# Altium footprint library Connector_Samtec_HSEC8.PcbLib: 133 footprints (part 4 of 9)
Each footprint in its own frame and in the unit in brackets; x right, y up, seen from the top. Pads: shape width x height; smd on the part's side, far side on the other; paste and mask are expansions set on the pad; w line width, h text height; cw(c..) or ccw(c..) is an arc to the next point about the centre after c.
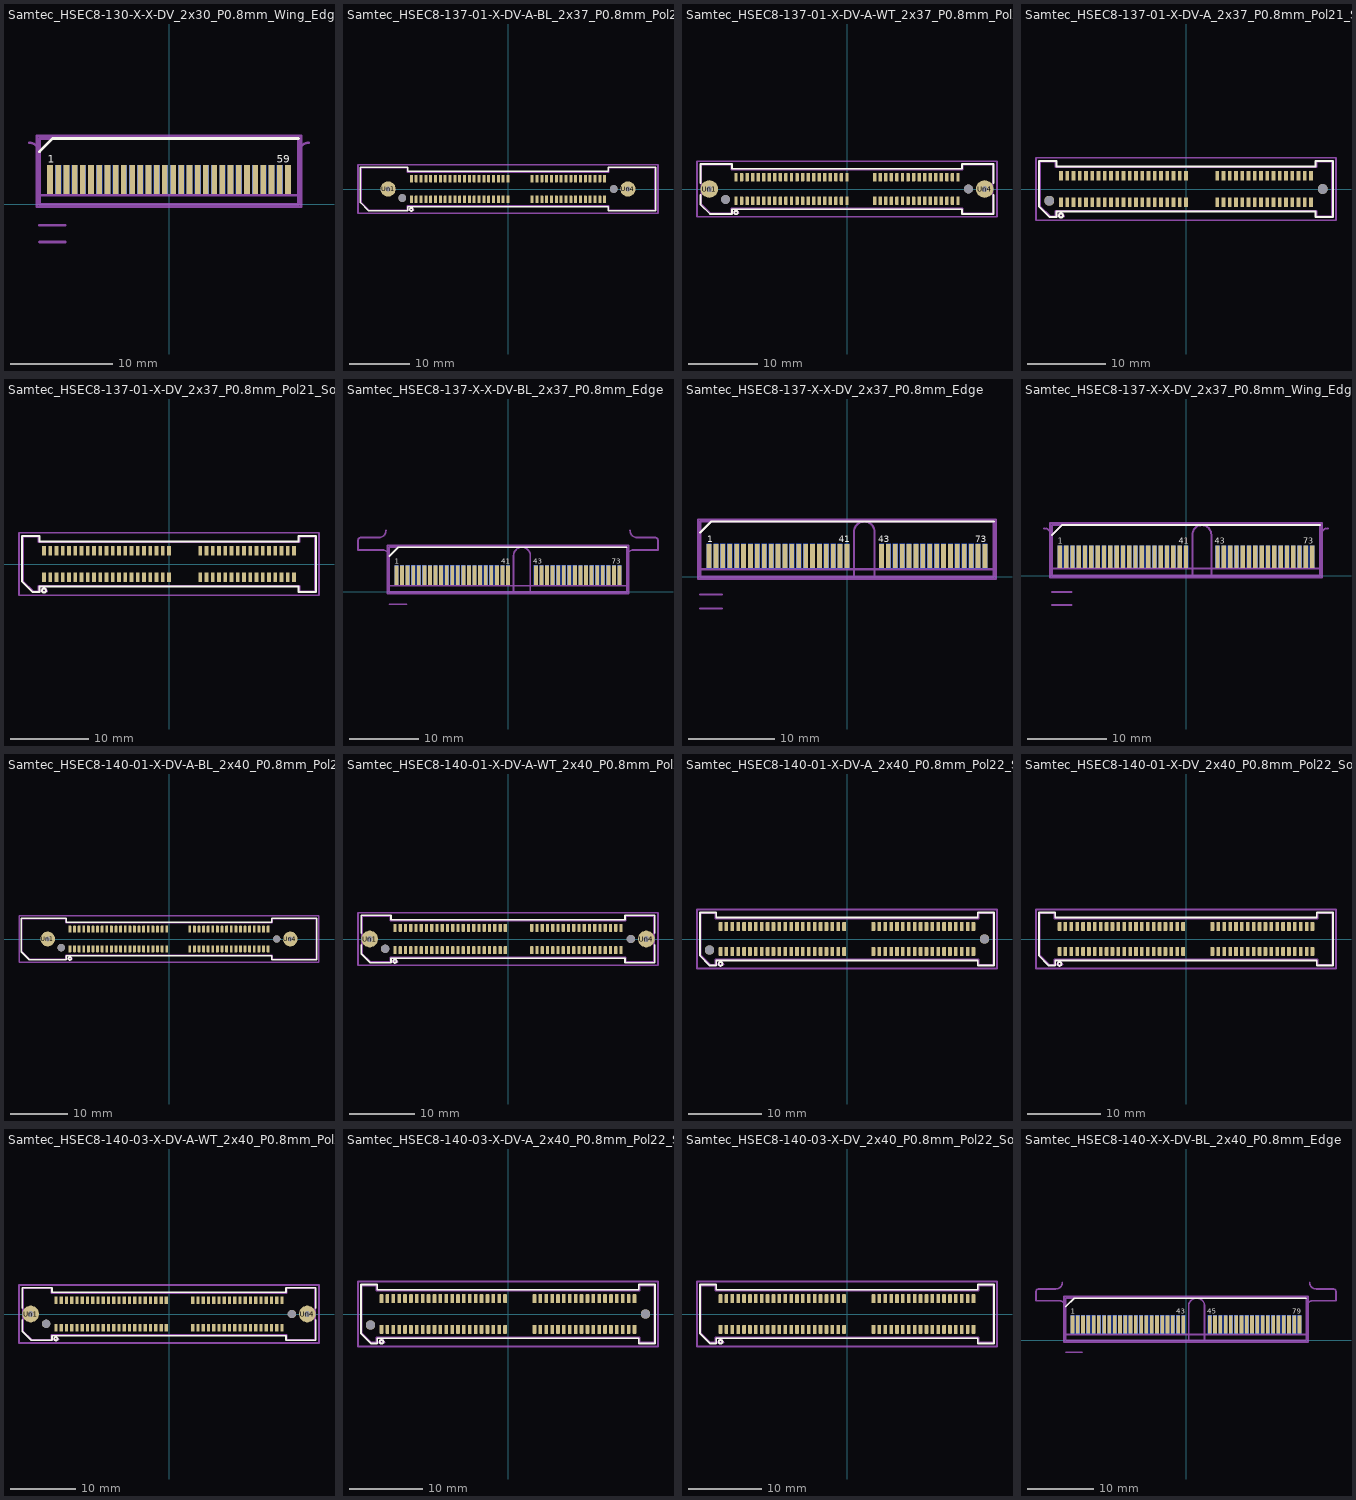
[diagram p3: the footprints below, top view; thin cyan lines are the x and y axes]

## Samtec_HSEC8-130-X-X-DV_2x30_P0.8mm_Wing_Edge [mm]
pads (60):
  rect 0.55x2.8 smd: 1(-11.6,2.4) 3(-10.8,2.4) 5(-10,2.4) 7(-9.2,2.4) 9(-8.4,2.4) 11(-7.6,2.4) 13(-6.8,2.4) 15(-6,2.4) 17(-5.2,2.4) 19(-4.4,2.4) 21(-3.6,2.4) 23(-2.8,2.4) 25(-2,2.4) 27(-1.2,2.4) 29(-0.4,2.4) 31(0.4,2.4) 33(1.2,2.4) 35(2,2.4) 37(2.8,2.4) 39(3.6,2.4) 41(4.4,2.4) 43(5.2,2.4) 45(6,2.4) 47(6.8,2.4) 49(7.6,2.4) 51(8.4,2.4) 53(9.2,2.4) 55(10,2.4) 57(10.8,2.4) 59(11.6,2.4)
  rect 0.55x2.8 smd far side: 2(-11.6,2.4) 4(-10.8,2.4) 6(-10,2.4) 8(-9.2,2.4) 10(-8.4,2.4) 12(-7.6,2.4) 14(-6.8,2.4) 16(-6,2.4) 18(-5.2,2.4) 20(-4.4,2.4) 22(-3.6,2.4) 24(-2.8,2.4) 26(-2,2.4) 28(-1.2,2.4) 30(-0.4,2.4) 32(0.4,2.4) 34(1.2,2.4) 36(2,2.4) 38(2.8,2.4) 40(3.6,2.4) 42(4.4,2.4) 44(5.2,2.4) 46(6,2.4) 48(6.8,2.4) 50(7.6,2.4) 52(8.4,2.4) 54(9.2,2.4) 56(10,2.4) 58(10.8,2.4) 60(11.6,2.4)
F.SilkS:
  lines w0.254: -12.625,5.13 -11.355,6.4 12.625,6.4
  text "59" at 10.509,4.025 h0.75
  text "1" at -11.839,4.025 h0.75
B.SilkS:
  lines w0.254: -12.625,6.4 12.625,6.4
  text "60" at 11.939,4.025 h0.75
  text "2" at -11.2,4.025 h0.75
Top Assembly:
  lines w0.254: -12.625,0.88 12.625,0.88 ; -12.625,0 12.625,0 12.625,6.4 -11.355,6.4 -12.625,5.13 -12.625,0
  text "'.Designator'" at -4.047,1.7 h1
Bottom Assembly:
  lines w0.254: -12.625,0.88 12.625,0.88 ; -12.625,0 12.625,0 12.625,6.4 -12.625,6.4 -12.625,0
Top Courtyard:
  lines w0.254: -12.88,-0.25 12.88,-0.25 12.88,6.65 -12.88,6.65 -12.88,-0.25
Bottom Courtyard:
  lines w0.254: -12.88,-0.25 12.88,-0.25 12.88,6.65 -12.88,6.65 -12.88,-0.25
Top Designator:
  text ".Designator" at -7.618,0.475 h1.52
Board Shape:
  lines w0.254: -13.625,6 cw(c-13.625,5) -12.625,5 -12.625,0 12.625,0 12.625,5 cw(c13.625,5) 13.625,6
Cmts.User:
  lines w0.254: -12.625,-3.69 -10.125,-3.69 ; -12.625,-2.05 -10.125,-2.05
  text "mated PCB distance: 3.69 mm (max)" at -10.03,-4.411 h0.75
  text "mated PCB distance: 2.05 mm (min)" at -10.03,-2.771 h0.75
  text "Chamfer 30 degree 0.45 mm" at -7.868,-0.21 h0.75

## Samtec_HSEC8-137-01-X-DV-A-BL_2x37_P0.8mm_Pol21_Socket_WeldTabs_BoardLocks [mm]
pads (78):
  rrect25% 0.5x1.2 smd: 1(-16,-1.7) 2(-16,1.7) 3(-15.2,-1.7) 4(-15.2,1.7) 5(-14.4,-1.7) 6(-14.4,1.7) 7(-13.6,-1.7) 8(-13.6,1.7) 9(-12.8,-1.7) 10(-12.8,1.7) 11(-12,-1.7) 12(-12,1.7) 13(-11.2,-1.7) 14(-11.2,1.7) 15(-10.4,-1.7) 16(-10.4,1.7) 17(-9.6,-1.7) 18(-9.6,1.7) 19(-8.8,-1.7) 20(-8.8,1.7) 21(-8,-1.7) 22(-8,1.7) 23(-7.2,-1.7) 24(-7.2,1.7) 25(-6.4,-1.7) 26(-6.4,1.7) 27(-5.6,-1.7) 28(-5.6,1.7) 29(-4.8,-1.7) 30(-4.8,1.7) 31(-4,-1.7) 32(-4,1.7) 33(-3.2,-1.7) 34(-3.2,1.7) 35(-2.4,-1.7) 36(-2.4,1.7) 37(-1.6,-1.7) 38(-1.6,1.7) 39(-0.8,-1.7) 40(-0.8,1.7) 41(0,-1.7) 42(0,1.7) 43(4,-1.7) 44(4,1.7) 45(4.8,-1.7) 46(4.8,1.7) 47(5.6,-1.7) 48(5.6,1.7) 49(6.4,-1.7) 50(6.4,1.7) 51(7.2,-1.7) 52(7.2,1.7) 53(8,-1.7) 54(8,1.7) 55(8.8,-1.7) 56(8.8,1.7) 57(9.6,-1.7) 58(9.6,1.7) 59(10.4,-1.7) 60(10.4,1.7) 61(11.2,-1.7) 62(11.2,1.7) 63(12,-1.7) 64(12,1.7) 65(12.8,-1.7) 66(12.8,1.7) 67(13.6,-1.7) 68(13.6,1.7) 69(14.4,-1.7) 70(14.4,1.7) 71(15.2,-1.7) 72(15.2,1.7) 73(16,-1.7) 74(16,1.7)
  round 2.54 hole 0.84: Un1(-19.85,0) Un4(19.85,0)
  round 1.27 hole 1.27: Un2(-17.5,-1.5) Un3(17.5,0)
F.SilkS:
  circle w0.254: c-16,-3.4 r0.25
  lines w0.254: -24.435,-2.246 -23.071,-3.61 -16.59,-3.61 -16.59,-2.91 16.59,-2.91 16.59,-3.61 24.435,-3.61 24.435,3.61 16.59,3.61 16.59,2.91 -16.59,2.91 -16.59,3.61 -24.435,3.61 -24.435,-2.246
Top Assembly:
  lines w0.254: -24.325,-2.2 -23.025,-3.5 -16.7,-3.5 -16.7,-2.8 16.7,-2.8 16.7,-3.5 24.325,-3.5 24.325,3.5 16.7,3.5 16.7,2.8 -16.7,2.8 -16.7,3.5 -24.325,3.5 -24.325,-2.2 ; -16.4,-3.5 -15.6,-3.5 -16,-2.86 -16.4,-3.5
  text "'.Designator'" at -4.047,-0.84 h1
Top Courtyard:
  lines w0.254: -24.83,-4 24.83,-4 24.83,4 -24.83,4 -24.83,-4
Top Designator:
  text ".Designator" at -7.618,-0.508 h1.52

## Samtec_HSEC8-137-01-X-DV-A-WT_2x37_P0.8mm_Pol21_Socket_WeldTabs [mm]
pads (78):
  rrect25% 0.5x1.2 smd: 1(-16,-1.7) 2(-16,1.7) 3(-15.2,-1.7) 4(-15.2,1.7) 5(-14.4,-1.7) 6(-14.4,1.7) 7(-13.6,-1.7) 8(-13.6,1.7) 9(-12.8,-1.7) 10(-12.8,1.7) 11(-12,-1.7) 12(-12,1.7) 13(-11.2,-1.7) 14(-11.2,1.7) 15(-10.4,-1.7) 16(-10.4,1.7) 17(-9.6,-1.7) 18(-9.6,1.7) 19(-8.8,-1.7) 20(-8.8,1.7) 21(-8,-1.7) 22(-8,1.7) 23(-7.2,-1.7) 24(-7.2,1.7) 25(-6.4,-1.7) 26(-6.4,1.7) 27(-5.6,-1.7) 28(-5.6,1.7) 29(-4.8,-1.7) 30(-4.8,1.7) 31(-4,-1.7) 32(-4,1.7) 33(-3.2,-1.7) 34(-3.2,1.7) 35(-2.4,-1.7) 36(-2.4,1.7) 37(-1.6,-1.7) 38(-1.6,1.7) 39(-0.8,-1.7) 40(-0.8,1.7) 41(0,-1.7) 42(0,1.7) 43(4,-1.7) 44(4,1.7) 45(4.8,-1.7) 46(4.8,1.7) 47(5.6,-1.7) 48(5.6,1.7) 49(6.4,-1.7) 50(6.4,1.7) 51(7.2,-1.7) 52(7.2,1.7) 53(8,-1.7) 54(8,1.7) 55(8.8,-1.7) 56(8.8,1.7) 57(9.6,-1.7) 58(9.6,1.7) 59(10.4,-1.7) 60(10.4,1.7) 61(11.2,-1.7) 62(11.2,1.7) 63(12,-1.7) 64(12,1.7) 65(12.8,-1.7) 66(12.8,1.7) 67(13.6,-1.7) 68(13.6,1.7) 69(14.4,-1.7) 70(14.4,1.7) 71(15.2,-1.7) 72(15.2,1.7) 73(16,-1.7) 74(16,1.7)
  round 2.54 hole 0.84: Un1(-19.85,0) Un4(19.85,0)
  round 1.27 hole 1.27: Un2(-17.5,-1.5) Un3(17.5,0)
F.SilkS:
  circle w0.254: c-16,-3.4 r0.25
  lines w0.254: -21.11,-0.868 -21.11,-2.246 -19.746,-3.61 -16.59,-3.61 -16.59,-2.91 16.59,-2.91 16.59,-3.61 21.11,-3.61 21.11,-0.868 ; -21.11,0.868 -21.11,3.61 -16.59,3.61 -16.59,2.91 16.59,2.91 16.59,3.61 21.11,3.61 21.11,0.868
Top Assembly:
  lines w0.254: -21,-2.2 -19.7,-3.5 -16.7,-3.5 -16.7,-2.8 16.7,-2.8 16.7,-3.5 21,-3.5 21,3.5 16.7,3.5 16.7,2.8 -16.7,2.8 -16.7,3.5 -21,3.5 -21,-2.2 ; -16.4,-3.5 -15.6,-3.5 -16,-2.86 -16.4,-3.5
  text "'.Designator'" at -4.047,-0.84 h1
Top Courtyard:
  lines w0.254: -21.62,-4 21.62,-4 21.62,4 -21.62,4 -21.62,-4
Top Designator:
  text ".Designator" at -7.618,-0.508 h1.52

## Samtec_HSEC8-137-01-X-DV-A_2x37_P0.8mm_Pol21_Socket_AlignmentPins [mm]
pads (76):
  rrect25% 0.5x1.2 smd: 1(-16,-1.7) 2(-16,1.7) 3(-15.2,-1.7) 4(-15.2,1.7) 5(-14.4,-1.7) 6(-14.4,1.7) 7(-13.6,-1.7) 8(-13.6,1.7) 9(-12.8,-1.7) 10(-12.8,1.7) 11(-12,-1.7) 12(-12,1.7) 13(-11.2,-1.7) 14(-11.2,1.7) 15(-10.4,-1.7) 16(-10.4,1.7) 17(-9.6,-1.7) 18(-9.6,1.7) 19(-8.8,-1.7) 20(-8.8,1.7) 21(-8,-1.7) 22(-8,1.7) 23(-7.2,-1.7) 24(-7.2,1.7) 25(-6.4,-1.7) 26(-6.4,1.7) 27(-5.6,-1.7) 28(-5.6,1.7) 29(-4.8,-1.7) 30(-4.8,1.7) 31(-4,-1.7) 32(-4,1.7) 33(-3.2,-1.7) 34(-3.2,1.7) 35(-2.4,-1.7) 36(-2.4,1.7) 37(-1.6,-1.7) 38(-1.6,1.7) 39(-0.8,-1.7) 40(-0.8,1.7) 41(0,-1.7) 42(0,1.7) 43(4,-1.7) 44(4,1.7) 45(4.8,-1.7) 46(4.8,1.7) 47(5.6,-1.7) 48(5.6,1.7) 49(6.4,-1.7) 50(6.4,1.7) 51(7.2,-1.7) 52(7.2,1.7) 53(8,-1.7) 54(8,1.7) 55(8.8,-1.7) 56(8.8,1.7) 57(9.6,-1.7) 58(9.6,1.7) 59(10.4,-1.7) 60(10.4,1.7) 61(11.2,-1.7) 62(11.2,1.7) 63(12,-1.7) 64(12,1.7) 65(12.8,-1.7) 66(12.8,1.7) 67(13.6,-1.7) 68(13.6,1.7) 69(14.4,-1.7) 70(14.4,1.7) 71(15.2,-1.7) 72(15.2,1.7) 73(16,-1.7) 74(16,1.7)
  round 1.27 hole 1.27: Un1(-17.5,-1.5) Un2(17.5,0)
F.SilkS:
  circle w0.254: c-16,-3.4 r0.25
  lines w0.254: -18.81,-2.246 -17.446,-3.61 -16.59,-3.61 -16.59,-2.91 16.59,-2.91 16.59,-3.61 18.81,-3.61 18.81,3.61 16.59,3.61 16.59,2.91 -16.59,2.91 -16.59,3.61 -18.81,3.61 -18.81,-2.246
Top Assembly:
  lines w0.254: -18.7,-2.2 -17.4,-3.5 -16.7,-3.5 -16.7,-2.8 16.7,-2.8 16.7,-3.5 18.7,-3.5 18.7,3.5 16.7,3.5 16.7,2.8 -16.7,2.8 -16.7,3.5 -18.7,3.5 -18.7,-2.2 ; -16.4,-3.5 -15.6,-3.5 -16,-2.86 -16.4,-3.5
  text "'.Designator'" at -4.047,-0.84 h1
Top Courtyard:
  lines w0.254: -19.2,-4 19.2,-4 19.2,4 -19.2,4 -19.2,-4
Top Designator:
  text ".Designator" at -7.618,-0.508 h1.52

## Samtec_HSEC8-137-01-X-DV_2x37_P0.8mm_Pol21_Socket [mm]
pads (74):
  rrect25% 0.5x1.2 smd: 1(-16,-1.7) 2(-16,1.7) 3(-15.2,-1.7) 4(-15.2,1.7) 5(-14.4,-1.7) 6(-14.4,1.7) 7(-13.6,-1.7) 8(-13.6,1.7) 9(-12.8,-1.7) 10(-12.8,1.7) 11(-12,-1.7) 12(-12,1.7) 13(-11.2,-1.7) 14(-11.2,1.7) 15(-10.4,-1.7) 16(-10.4,1.7) 17(-9.6,-1.7) 18(-9.6,1.7) 19(-8.8,-1.7) 20(-8.8,1.7) 21(-8,-1.7) 22(-8,1.7) 23(-7.2,-1.7) 24(-7.2,1.7) 25(-6.4,-1.7) 26(-6.4,1.7) 27(-5.6,-1.7) 28(-5.6,1.7) 29(-4.8,-1.7) 30(-4.8,1.7) 31(-4,-1.7) 32(-4,1.7) 33(-3.2,-1.7) 34(-3.2,1.7) 35(-2.4,-1.7) 36(-2.4,1.7) 37(-1.6,-1.7) 38(-1.6,1.7) 39(-0.8,-1.7) 40(-0.8,1.7) 41(0,-1.7) 42(0,1.7) 43(4,-1.7) 44(4,1.7) 45(4.8,-1.7) 46(4.8,1.7) 47(5.6,-1.7) 48(5.6,1.7) 49(6.4,-1.7) 50(6.4,1.7) 51(7.2,-1.7) 52(7.2,1.7) 53(8,-1.7) 54(8,1.7) 55(8.8,-1.7) 56(8.8,1.7) 57(9.6,-1.7) 58(9.6,1.7) 59(10.4,-1.7) 60(10.4,1.7) 61(11.2,-1.7) 62(11.2,1.7) 63(12,-1.7) 64(12,1.7) 65(12.8,-1.7) 66(12.8,1.7) 67(13.6,-1.7) 68(13.6,1.7) 69(14.4,-1.7) 70(14.4,1.7) 71(15.2,-1.7) 72(15.2,1.7) 73(16,-1.7) 74(16,1.7)
F.SilkS:
  circle w0.254: c-16,-3.4 r0.25
  lines w0.254: -18.81,-2.246 -17.446,-3.61 -16.59,-3.61 -16.59,-2.91 16.59,-2.91 16.59,-3.61 18.81,-3.61 18.81,3.61 16.59,3.61 16.59,2.91 -16.59,2.91 -16.59,3.61 -18.81,3.61 -18.81,-2.246
Top Assembly:
  lines w0.254: -18.7,-2.2 -17.4,-3.5 -16.7,-3.5 -16.7,-2.8 16.7,-2.8 16.7,-3.5 18.7,-3.5 18.7,3.5 16.7,3.5 16.7,2.8 -16.7,2.8 -16.7,3.5 -18.7,3.5 -18.7,-2.2 ; -16.4,-3.5 -15.6,-3.5 -16,-2.86 -16.4,-3.5
  text "'.Designator'" at -4.047,-0.84 h1
Top Courtyard:
  lines w0.254: -19.2,-4 19.2,-4 19.2,4 -19.2,4 -19.2,-4
Top Designator:
  text ".Designator" at -7.618,-0.508 h1.52

## Samtec_HSEC8-137-X-X-DV-BL_2x37_P0.8mm_Edge [mm]
pads (74):
  rect 0.55x2.8 smd: 1(-16,2.4) 3(-15.2,2.4) 5(-14.4,2.4) 7(-13.6,2.4) 9(-12.8,2.4) 11(-12,2.4) 13(-11.2,2.4) 15(-10.4,2.4) 17(-9.6,2.4) 19(-8.8,2.4) 21(-8,2.4) 23(-7.2,2.4) 25(-6.4,2.4) 27(-5.6,2.4) 29(-4.8,2.4) 31(-4,2.4) 33(-3.2,2.4) 35(-2.4,2.4) 37(-1.6,2.4) 39(-0.8,2.4) 41(0,2.4) 43(4,2.4) 45(4.8,2.4) 47(5.6,2.4) 49(6.4,2.4) 51(7.2,2.4) 53(8,2.4) 55(8.8,2.4) 57(9.6,2.4) 59(10.4,2.4) 61(11.2,2.4) 63(12,2.4) 65(12.8,2.4) 67(13.6,2.4) 69(14.4,2.4) 71(15.2,2.4) 73(16,2.4)
  rect 0.55x2.8 smd far side: 2(-16,2.4) 4(-15.2,2.4) 6(-14.4,2.4) 8(-13.6,2.4) 10(-12.8,2.4) 12(-12,2.4) 14(-11.2,2.4) 16(-10.4,2.4) 18(-9.6,2.4) 20(-8.8,2.4) 22(-8,2.4) 24(-7.2,2.4) 26(-6.4,2.4) 28(-5.6,2.4) 30(-4.8,2.4) 32(-4,2.4) 34(-3.2,2.4) 36(-2.4,2.4) 38(-1.6,2.4) 40(-0.8,2.4) 42(0,2.4) 44(4,2.4) 46(4.8,2.4) 48(5.6,2.4) 50(6.4,2.4) 52(7.2,2.4) 54(8,2.4) 56(8.8,2.4) 58(9.6,2.4) 60(10.4,2.4) 62(11.2,2.4) 64(12,2.4) 66(12.8,2.4) 68(13.6,2.4) 70(14.4,2.4) 72(15.2,2.4) 74(16,2.4)
F.SilkS:
  lines w0.254: -17.025,5.13 -15.755,6.4 17.025,6.4
  text "73" at 14.891,4.025 h0.75
  text "43" at 3.641,4.025 h0.75
  text "41" at -0.948,4.025 h0.75
  text "1" at -16.239,4.025 h0.75
B.SilkS:
  lines w0.254: -17.025,6.4 17.025,6.4
  text "74" at 16.377,4.025 h0.75
  text "44" at 5.127,4.025 h0.75
  text "42" at 0.359,4.025 h0.75
  text "2" at -15.6,4.025 h0.75
Top Assembly:
  lines w0.254: -17.025,0.88 17.025,0.88 ; -17.025,0 17.025,0 17.025,6.4 -15.755,6.4 -17.025,5.13 -17.025,0
  text "'.Designator'" at -4.047,1.7 h1
Bottom Assembly:
  lines w0.254: -17.025,0.88 17.025,0.88 ; -17.025,0 17.025,0 17.025,6.4 -17.025,6.4 -17.025,0
Top Courtyard:
  lines w0.254: -17.28,-0.25 17.28,-0.25 17.28,6.65 -17.28,6.65 -17.28,-0.25
Bottom Courtyard:
  lines w0.254: -17.28,-0.25 17.28,-0.25 17.28,6.65 -17.28,6.65 -17.28,-0.25
Top Designator:
  text ".Designator" at -7.618,2.485 h1.52
Board Shape:
  lines w0.254: -17.525,8.78 cw(c-18.525,8.78) -18.525,7.78 -21.125,7.78 ccw(c-21.125,7.38) -21.525,7.38 -21.525,6 -18.025,6 cw(c-18.025,5) -17.025,5 -17.025,0 0.805,0 0.805,5.2 cw(c2.005,5.2) 3.205,5.2 3.205,0 17.025,0 17.025,5 cw(c18.025,5) 18.025,6 21.525,6 21.525,7.38 ccw(c21.125,7.38) 21.125,7.78 18.525,7.78 cw(c18.525,8.78) 17.525,8.78
Cmts.User:
  lines w0.254: -17.025,-1.8 -14.525,-1.8
  text "mated PCB distance: 1.80 mm (ref)" at -14.43,-2.521 h0.75
  text "Chamfer 30 degree 0.45 mm" at -7.868,-0.21 h0.75

## Samtec_HSEC8-137-X-X-DV_2x37_P0.8mm_Edge [mm]
pads (74):
  rect 0.55x2.8 smd: 1(-16,2.4) 3(-15.2,2.4) 5(-14.4,2.4) 7(-13.6,2.4) 9(-12.8,2.4) 11(-12,2.4) 13(-11.2,2.4) 15(-10.4,2.4) 17(-9.6,2.4) 19(-8.8,2.4) 21(-8,2.4) 23(-7.2,2.4) 25(-6.4,2.4) 27(-5.6,2.4) 29(-4.8,2.4) 31(-4,2.4) 33(-3.2,2.4) 35(-2.4,2.4) 37(-1.6,2.4) 39(-0.8,2.4) 41(0,2.4) 43(4,2.4) 45(4.8,2.4) 47(5.6,2.4) 49(6.4,2.4) 51(7.2,2.4) 53(8,2.4) 55(8.8,2.4) 57(9.6,2.4) 59(10.4,2.4) 61(11.2,2.4) 63(12,2.4) 65(12.8,2.4) 67(13.6,2.4) 69(14.4,2.4) 71(15.2,2.4) 73(16,2.4)
  rect 0.55x2.8 smd far side: 2(-16,2.4) 4(-15.2,2.4) 6(-14.4,2.4) 8(-13.6,2.4) 10(-12.8,2.4) 12(-12,2.4) 14(-11.2,2.4) 16(-10.4,2.4) 18(-9.6,2.4) 20(-8.8,2.4) 22(-8,2.4) 24(-7.2,2.4) 26(-6.4,2.4) 28(-5.6,2.4) 30(-4.8,2.4) 32(-4,2.4) 34(-3.2,2.4) 36(-2.4,2.4) 38(-1.6,2.4) 40(-0.8,2.4) 42(0,2.4) 44(4,2.4) 46(4.8,2.4) 48(5.6,2.4) 50(6.4,2.4) 52(7.2,2.4) 54(8,2.4) 56(8.8,2.4) 58(9.6,2.4) 60(10.4,2.4) 62(11.2,2.4) 64(12,2.4) 66(12.8,2.4) 68(13.6,2.4) 70(14.4,2.4) 72(15.2,2.4) 74(16,2.4)
F.SilkS:
  lines w0.254: -17.025,5.13 -15.755,6.4 17.025,6.4
  text "73" at 14.891,4.025 h0.75
  text "43" at 3.641,4.025 h0.75
  text "41" at -0.948,4.025 h0.75
  text "1" at -16.239,4.025 h0.75
B.SilkS:
  lines w0.254: -17.025,6.4 17.025,6.4
  text "74" at 16.377,4.025 h0.75
  text "44" at 5.127,4.025 h0.75
  text "42" at 0.359,4.025 h0.75
  text "2" at -15.6,4.025 h0.75
Top Assembly:
  lines w0.254: -17.025,0.88 17.025,0.88 ; -17.025,0 17.025,0 17.025,6.4 -15.755,6.4 -17.025,5.13 -17.025,0
  text "'.Designator'" at -4.047,1.7 h1
Bottom Assembly:
  lines w0.254: -17.025,0.88 17.025,0.88 ; -17.025,0 17.025,0 17.025,6.4 -17.025,6.4 -17.025,0
Top Courtyard:
  lines w0.254: -17.28,-0.25 17.28,-0.25 17.28,6.65 -17.28,6.65 -17.28,-0.25
Bottom Courtyard:
  lines w0.254: -17.28,-0.25 17.28,-0.25 17.28,6.65 -17.28,6.65 -17.28,-0.25
Top Designator:
  text ".Designator" at -7.618,0.475 h1.52
Board Shape:
  lines w0.254: -17.025,5 -17.025,0 0.805,0 0.805,5.2 cw(c2.005,5.2) 3.205,5.2 3.205,0 17.025,0 17.025,5
Cmts.User:
  lines w0.254: -17.025,-3.69 -14.525,-3.69 ; -17.025,-2.05 -14.525,-2.05
  text "mated PCB distance: 3.69 mm (max)" at -14.43,-4.411 h0.75
  text "mated PCB distance: 2.05 mm (min)" at -14.43,-2.771 h0.75
  text "Chamfer 30 degree 0.45 mm" at -7.868,-0.21 h0.75

## Samtec_HSEC8-137-X-X-DV_2x37_P0.8mm_Wing_Edge [mm]
pads (74):
  rect 0.55x2.8 smd: 1(-16,2.4) 3(-15.2,2.4) 5(-14.4,2.4) 7(-13.6,2.4) 9(-12.8,2.4) 11(-12,2.4) 13(-11.2,2.4) 15(-10.4,2.4) 17(-9.6,2.4) 19(-8.8,2.4) 21(-8,2.4) 23(-7.2,2.4) 25(-6.4,2.4) 27(-5.6,2.4) 29(-4.8,2.4) 31(-4,2.4) 33(-3.2,2.4) 35(-2.4,2.4) 37(-1.6,2.4) 39(-0.8,2.4) 41(0,2.4) 43(4,2.4) 45(4.8,2.4) 47(5.6,2.4) 49(6.4,2.4) 51(7.2,2.4) 53(8,2.4) 55(8.8,2.4) 57(9.6,2.4) 59(10.4,2.4) 61(11.2,2.4) 63(12,2.4) 65(12.8,2.4) 67(13.6,2.4) 69(14.4,2.4) 71(15.2,2.4) 73(16,2.4)
  rect 0.55x2.8 smd far side: 2(-16,2.4) 4(-15.2,2.4) 6(-14.4,2.4) 8(-13.6,2.4) 10(-12.8,2.4) 12(-12,2.4) 14(-11.2,2.4) 16(-10.4,2.4) 18(-9.6,2.4) 20(-8.8,2.4) 22(-8,2.4) 24(-7.2,2.4) 26(-6.4,2.4) 28(-5.6,2.4) 30(-4.8,2.4) 32(-4,2.4) 34(-3.2,2.4) 36(-2.4,2.4) 38(-1.6,2.4) 40(-0.8,2.4) 42(0,2.4) 44(4,2.4) 46(4.8,2.4) 48(5.6,2.4) 50(6.4,2.4) 52(7.2,2.4) 54(8,2.4) 56(8.8,2.4) 58(9.6,2.4) 60(10.4,2.4) 62(11.2,2.4) 64(12,2.4) 66(12.8,2.4) 68(13.6,2.4) 70(14.4,2.4) 72(15.2,2.4) 74(16,2.4)
F.SilkS:
  lines w0.254: -17.025,5.13 -15.755,6.4 17.025,6.4
  text "73" at 14.891,4.025 h0.75
  text "43" at 3.641,4.025 h0.75
  text "41" at -0.948,4.025 h0.75
  text "1" at -16.239,4.025 h0.75
B.SilkS:
  lines w0.254: -17.025,6.4 17.025,6.4
  text "74" at 16.377,4.025 h0.75
  text "44" at 5.127,4.025 h0.75
  text "42" at 0.359,4.025 h0.75
  text "2" at -15.6,4.025 h0.75
Top Assembly:
  lines w0.254: -17.025,0.88 17.025,0.88 ; -17.025,0 17.025,0 17.025,6.4 -15.755,6.4 -17.025,5.13 -17.025,0
  text "'.Designator'" at -4.047,1.7 h1
Bottom Assembly:
  lines w0.254: -17.025,0.88 17.025,0.88 ; -17.025,0 17.025,0 17.025,6.4 -17.025,6.4 -17.025,0
Top Courtyard:
  lines w0.254: -17.28,-0.25 17.28,-0.25 17.28,6.65 -17.28,6.65 -17.28,-0.25
Bottom Courtyard:
  lines w0.254: -17.28,-0.25 17.28,-0.25 17.28,6.65 -17.28,6.65 -17.28,-0.25
Top Designator:
  text ".Designator" at -7.618,0.475 h1.52
Board Shape:
  lines w0.254: -18.025,6 cw(c-18.025,5) -17.025,5 -17.025,0 0.805,0 0.805,5.2 cw(c2.005,5.2) 3.205,5.2 3.205,0 17.025,0 17.025,5 cw(c18.025,5) 18.025,6
Cmts.User:
  lines w0.254: -17.025,-3.69 -14.525,-3.69 ; -17.025,-2.05 -14.525,-2.05
  text "mated PCB distance: 3.69 mm (max)" at -14.43,-4.411 h0.75
  text "mated PCB distance: 2.05 mm (min)" at -14.43,-2.771 h0.75
  text "Chamfer 30 degree 0.45 mm" at -7.868,-0.21 h0.75

## Samtec_HSEC8-140-01-X-DV-A-BL_2x40_P0.8mm_Pol22_Socket_WeldTabs_BoardLocks [mm]
pads (84):
  rrect25% 0.5x1.2 smd: 1(-17.2,-1.7) 2(-17.2,1.7) 3(-16.4,-1.7) 4(-16.4,1.7) 5(-15.6,-1.7) 6(-15.6,1.7) 7(-14.8,-1.7) 8(-14.8,1.7) 9(-14,-1.7) 10(-14,1.7) 11(-13.2,-1.7) 12(-13.2,1.7) 13(-12.4,-1.7) 14(-12.4,1.7) 15(-11.6,-1.7) 16(-11.6,1.7) 17(-10.8,-1.7) 18(-10.8,1.7) 19(-10,-1.7) 20(-10,1.7) 21(-9.2,-1.7) 22(-9.2,1.7) 23(-8.4,-1.7) 24(-8.4,1.7) 25(-7.6,-1.7) 26(-7.6,1.7) 27(-6.8,-1.7) 28(-6.8,1.7) 29(-6,-1.7) 30(-6,1.7) 31(-5.2,-1.7) 32(-5.2,1.7) 33(-4.4,-1.7) 34(-4.4,1.7) 35(-3.6,-1.7) 36(-3.6,1.7) 37(-2.8,-1.7) 38(-2.8,1.7) 39(-2,-1.7) 40(-2,1.7) 41(-1.2,-1.7) 42(-1.2,1.7) 43(-0.4,-1.7) 44(-0.4,1.7) 45(3.6,-1.7) 46(3.6,1.7) 47(4.4,-1.7) 48(4.4,1.7) 49(5.2,-1.7) 50(5.2,1.7) 51(6,-1.7) 52(6,1.7) 53(6.8,-1.7) 54(6.8,1.7) 55(7.6,-1.7) 56(7.6,1.7) 57(8.4,-1.7) 58(8.4,1.7) 59(9.2,-1.7) 60(9.2,1.7) 61(10,-1.7) 62(10,1.7) 63(10.8,-1.7) 64(10.8,1.7) 65(11.6,-1.7) 66(11.6,1.7) 67(12.4,-1.7) 68(12.4,1.7) 69(13.2,-1.7) 70(13.2,1.7) 71(14,-1.7) 72(14,1.7) 73(14.8,-1.7) 74(14.8,1.7) 75(15.6,-1.7) 76(15.6,1.7) 77(16.4,-1.7) 78(16.4,1.7) 79(17.2,-1.7) 80(17.2,1.7)
  round 2.54 hole 0.84: Un1(-21.05,0) Un4(21.05,0)
  round 1.27 hole 1.27: Un2(-18.7,-1.5) Un3(18.7,0)
F.SilkS:
  circle w0.254: c-17.2,-3.4 r0.25
  lines w0.254: -25.635,-2.246 -24.271,-3.61 -17.79,-3.61 -17.79,-2.91 17.79,-2.91 17.79,-3.61 25.635,-3.61 25.635,3.61 17.79,3.61 17.79,2.91 -17.79,2.91 -17.79,3.61 -25.635,3.61 -25.635,-2.246
Top Assembly:
  lines w0.254: -25.525,-2.2 -24.225,-3.5 -17.9,-3.5 -17.9,-2.8 17.9,-2.8 17.9,-3.5 25.525,-3.5 25.525,3.5 17.9,3.5 17.9,2.8 -17.9,2.8 -17.9,3.5 -25.525,3.5 -25.525,-2.2 ; -17.6,-3.5 -16.8,-3.5 -17.2,-2.86 -17.6,-3.5
  text "'.Designator'" at -4.047,-0.84 h1
Top Courtyard:
  lines w0.254: -26.03,-4 26.03,-4 26.03,4 -26.03,4 -26.03,-4
Top Designator:
  text ".Designator" at -7.618,-0.508 h1.52

## Samtec_HSEC8-140-01-X-DV-A-WT_2x40_P0.8mm_Pol22_Socket_WeldTabs [mm]
pads (84):
  rrect25% 0.5x1.2 smd: 1(-17.2,-1.7) 2(-17.2,1.7) 3(-16.4,-1.7) 4(-16.4,1.7) 5(-15.6,-1.7) 6(-15.6,1.7) 7(-14.8,-1.7) 8(-14.8,1.7) 9(-14,-1.7) 10(-14,1.7) 11(-13.2,-1.7) 12(-13.2,1.7) 13(-12.4,-1.7) 14(-12.4,1.7) 15(-11.6,-1.7) 16(-11.6,1.7) 17(-10.8,-1.7) 18(-10.8,1.7) 19(-10,-1.7) 20(-10,1.7) 21(-9.2,-1.7) 22(-9.2,1.7) 23(-8.4,-1.7) 24(-8.4,1.7) 25(-7.6,-1.7) 26(-7.6,1.7) 27(-6.8,-1.7) 28(-6.8,1.7) 29(-6,-1.7) 30(-6,1.7) 31(-5.2,-1.7) 32(-5.2,1.7) 33(-4.4,-1.7) 34(-4.4,1.7) 35(-3.6,-1.7) 36(-3.6,1.7) 37(-2.8,-1.7) 38(-2.8,1.7) 39(-2,-1.7) 40(-2,1.7) 41(-1.2,-1.7) 42(-1.2,1.7) 43(-0.4,-1.7) 44(-0.4,1.7) 45(3.6,-1.7) 46(3.6,1.7) 47(4.4,-1.7) 48(4.4,1.7) 49(5.2,-1.7) 50(5.2,1.7) 51(6,-1.7) 52(6,1.7) 53(6.8,-1.7) 54(6.8,1.7) 55(7.6,-1.7) 56(7.6,1.7) 57(8.4,-1.7) 58(8.4,1.7) 59(9.2,-1.7) 60(9.2,1.7) 61(10,-1.7) 62(10,1.7) 63(10.8,-1.7) 64(10.8,1.7) 65(11.6,-1.7) 66(11.6,1.7) 67(12.4,-1.7) 68(12.4,1.7) 69(13.2,-1.7) 70(13.2,1.7) 71(14,-1.7) 72(14,1.7) 73(14.8,-1.7) 74(14.8,1.7) 75(15.6,-1.7) 76(15.6,1.7) 77(16.4,-1.7) 78(16.4,1.7) 79(17.2,-1.7) 80(17.2,1.7)
  round 2.54 hole 0.84: Un1(-21.05,0) Un4(21.05,0)
  round 1.27 hole 1.27: Un2(-18.7,-1.5) Un3(18.7,0)
F.SilkS:
  circle w0.254: c-17.2,-3.4 r0.25
  lines w0.254: -22.31,-0.868 -22.31,-2.246 -20.946,-3.61 -17.79,-3.61 -17.79,-2.91 17.79,-2.91 17.79,-3.61 22.31,-3.61 22.31,-0.868 ; -22.31,0.868 -22.31,3.61 -17.79,3.61 -17.79,2.91 17.79,2.91 17.79,3.61 22.31,3.61 22.31,0.868
Top Assembly:
  lines w0.254: -22.2,-2.2 -20.9,-3.5 -17.9,-3.5 -17.9,-2.8 17.9,-2.8 17.9,-3.5 22.2,-3.5 22.2,3.5 17.9,3.5 17.9,2.8 -17.9,2.8 -17.9,3.5 -22.2,3.5 -22.2,-2.2 ; -17.6,-3.5 -16.8,-3.5 -17.2,-2.86 -17.6,-3.5
  text "'.Designator'" at -4.047,-0.84 h1
Top Courtyard:
  lines w0.254: -22.82,-4 22.82,-4 22.82,4 -22.82,4 -22.82,-4
Top Designator:
  text ".Designator" at -7.618,-0.508 h1.52

## Samtec_HSEC8-140-01-X-DV-A_2x40_P0.8mm_Pol22_Socket_AlignmentPins [mm]
pads (82):
  rrect25% 0.5x1.2 smd: 1(-17.2,-1.7) 2(-17.2,1.7) 3(-16.4,-1.7) 4(-16.4,1.7) 5(-15.6,-1.7) 6(-15.6,1.7) 7(-14.8,-1.7) 8(-14.8,1.7) 9(-14,-1.7) 10(-14,1.7) 11(-13.2,-1.7) 12(-13.2,1.7) 13(-12.4,-1.7) 14(-12.4,1.7) 15(-11.6,-1.7) 16(-11.6,1.7) 17(-10.8,-1.7) 18(-10.8,1.7) 19(-10,-1.7) 20(-10,1.7) 21(-9.2,-1.7) 22(-9.2,1.7) 23(-8.4,-1.7) 24(-8.4,1.7) 25(-7.6,-1.7) 26(-7.6,1.7) 27(-6.8,-1.7) 28(-6.8,1.7) 29(-6,-1.7) 30(-6,1.7) 31(-5.2,-1.7) 32(-5.2,1.7) 33(-4.4,-1.7) 34(-4.4,1.7) 35(-3.6,-1.7) 36(-3.6,1.7) 37(-2.8,-1.7) 38(-2.8,1.7) 39(-2,-1.7) 40(-2,1.7) 41(-1.2,-1.7) 42(-1.2,1.7) 43(-0.4,-1.7) 44(-0.4,1.7) 45(3.6,-1.7) 46(3.6,1.7) 47(4.4,-1.7) 48(4.4,1.7) 49(5.2,-1.7) 50(5.2,1.7) 51(6,-1.7) 52(6,1.7) 53(6.8,-1.7) 54(6.8,1.7) 55(7.6,-1.7) 56(7.6,1.7) 57(8.4,-1.7) 58(8.4,1.7) 59(9.2,-1.7) 60(9.2,1.7) 61(10,-1.7) 62(10,1.7) 63(10.8,-1.7) 64(10.8,1.7) 65(11.6,-1.7) 66(11.6,1.7) 67(12.4,-1.7) 68(12.4,1.7) 69(13.2,-1.7) 70(13.2,1.7) 71(14,-1.7) 72(14,1.7) 73(14.8,-1.7) 74(14.8,1.7) 75(15.6,-1.7) 76(15.6,1.7) 77(16.4,-1.7) 78(16.4,1.7) 79(17.2,-1.7) 80(17.2,1.7)
  round 1.27 hole 1.27: Un1(-18.7,-1.5) Un2(18.7,0)
F.SilkS:
  circle w0.254: c-17.2,-3.4 r0.25
  lines w0.254: -20.01,-2.246 -18.646,-3.61 -17.79,-3.61 -17.79,-2.91 17.79,-2.91 17.79,-3.61 20.01,-3.61 20.01,3.61 17.79,3.61 17.79,2.91 -17.79,2.91 -17.79,3.61 -20.01,3.61 -20.01,-2.246
Top Assembly:
  lines w0.254: -19.9,-2.2 -18.6,-3.5 -17.9,-3.5 -17.9,-2.8 17.9,-2.8 17.9,-3.5 19.9,-3.5 19.9,3.5 17.9,3.5 17.9,2.8 -17.9,2.8 -17.9,3.5 -19.9,3.5 -19.9,-2.2 ; -17.6,-3.5 -16.8,-3.5 -17.2,-2.86 -17.6,-3.5
  text "'.Designator'" at -4.047,-0.84 h1
Top Courtyard:
  lines w0.254: -20.4,-4 20.4,-4 20.4,4 -20.4,4 -20.4,-4
Top Designator:
  text ".Designator" at -7.618,-0.508 h1.52

## Samtec_HSEC8-140-01-X-DV_2x40_P0.8mm_Pol22_Socket [mm]
pads (80):
  rrect25% 0.5x1.2 smd: 1(-17.2,-1.7) 2(-17.2,1.7) 3(-16.4,-1.7) 4(-16.4,1.7) 5(-15.6,-1.7) 6(-15.6,1.7) 7(-14.8,-1.7) 8(-14.8,1.7) 9(-14,-1.7) 10(-14,1.7) 11(-13.2,-1.7) 12(-13.2,1.7) 13(-12.4,-1.7) 14(-12.4,1.7) 15(-11.6,-1.7) 16(-11.6,1.7) 17(-10.8,-1.7) 18(-10.8,1.7) 19(-10,-1.7) 20(-10,1.7) 21(-9.2,-1.7) 22(-9.2,1.7) 23(-8.4,-1.7) 24(-8.4,1.7) 25(-7.6,-1.7) 26(-7.6,1.7) 27(-6.8,-1.7) 28(-6.8,1.7) 29(-6,-1.7) 30(-6,1.7) 31(-5.2,-1.7) 32(-5.2,1.7) 33(-4.4,-1.7) 34(-4.4,1.7) 35(-3.6,-1.7) 36(-3.6,1.7) 37(-2.8,-1.7) 38(-2.8,1.7) 39(-2,-1.7) 40(-2,1.7) 41(-1.2,-1.7) 42(-1.2,1.7) 43(-0.4,-1.7) 44(-0.4,1.7) 45(3.6,-1.7) 46(3.6,1.7) 47(4.4,-1.7) 48(4.4,1.7) 49(5.2,-1.7) 50(5.2,1.7) 51(6,-1.7) 52(6,1.7) 53(6.8,-1.7) 54(6.8,1.7) 55(7.6,-1.7) 56(7.6,1.7) 57(8.4,-1.7) 58(8.4,1.7) 59(9.2,-1.7) 60(9.2,1.7) 61(10,-1.7) 62(10,1.7) 63(10.8,-1.7) 64(10.8,1.7) 65(11.6,-1.7) 66(11.6,1.7) 67(12.4,-1.7) 68(12.4,1.7) 69(13.2,-1.7) 70(13.2,1.7) 71(14,-1.7) 72(14,1.7) 73(14.8,-1.7) 74(14.8,1.7) 75(15.6,-1.7) 76(15.6,1.7) 77(16.4,-1.7) 78(16.4,1.7) 79(17.2,-1.7) 80(17.2,1.7)
F.SilkS:
  circle w0.254: c-17.2,-3.4 r0.25
  lines w0.254: -20.01,-2.246 -18.646,-3.61 -17.79,-3.61 -17.79,-2.91 17.79,-2.91 17.79,-3.61 20.01,-3.61 20.01,3.61 17.79,3.61 17.79,2.91 -17.79,2.91 -17.79,3.61 -20.01,3.61 -20.01,-2.246
Top Assembly:
  lines w0.254: -19.9,-2.2 -18.6,-3.5 -17.9,-3.5 -17.9,-2.8 17.9,-2.8 17.9,-3.5 19.9,-3.5 19.9,3.5 17.9,3.5 17.9,2.8 -17.9,2.8 -17.9,3.5 -19.9,3.5 -19.9,-2.2 ; -17.6,-3.5 -16.8,-3.5 -17.2,-2.86 -17.6,-3.5
  text "'.Designator'" at -4.047,-0.84 h1
Top Courtyard:
  lines w0.254: -20.4,-4 20.4,-4 20.4,4 -20.4,4 -20.4,-4
Top Designator:
  text ".Designator" at -7.618,-0.508 h1.52

## Samtec_HSEC8-140-03-X-DV-A-WT_2x40_P0.8mm_Pol22_Socket_WeldTabs [mm]
pads (84):
  rrect25% 0.5x1.2 smd: 1(-17.2,-2.095) 2(-17.2,2.095) 3(-16.4,-2.095) 4(-16.4,2.095) 5(-15.6,-2.095) 6(-15.6,2.095) 7(-14.8,-2.095) 8(-14.8,2.095) 9(-14,-2.095) 10(-14,2.095) 11(-13.2,-2.095) 12(-13.2,2.095) 13(-12.4,-2.095) 14(-12.4,2.095) 15(-11.6,-2.095) 16(-11.6,2.095) 17(-10.8,-2.095) 18(-10.8,2.095) 19(-10,-2.095) 20(-10,2.095) 21(-9.2,-2.095) 22(-9.2,2.095) 23(-8.4,-2.095) 24(-8.4,2.095) 25(-7.6,-2.095) 26(-7.6,2.095) 27(-6.8,-2.095) 28(-6.8,2.095) 29(-6,-2.095) 30(-6,2.095) 31(-5.2,-2.095) 32(-5.2,2.095) 33(-4.4,-2.095) 34(-4.4,2.095) 35(-3.6,-2.095) 36(-3.6,2.095) 37(-2.8,-2.095) 38(-2.8,2.095) 39(-2,-2.095) 40(-2,2.095) 41(-1.2,-2.095) 42(-1.2,2.095) 43(-0.4,-2.095) 44(-0.4,2.095) 45(3.6,-2.095) 46(3.6,2.095) 47(4.4,-2.095) 48(4.4,2.095) 49(5.2,-2.095) 50(5.2,2.095) 51(6,-2.095) 52(6,2.095) 53(6.8,-2.095) 54(6.8,2.095) 55(7.6,-2.095) 56(7.6,2.095) 57(8.4,-2.095) 58(8.4,2.095) 59(9.2,-2.095) 60(9.2,2.095) 61(10,-2.095) 62(10,2.095) 63(10.8,-2.095) 64(10.8,2.095) 65(11.6,-2.095) 66(11.6,2.095) 67(12.4,-2.095) 68(12.4,2.095) 69(13.2,-2.095) 70(13.2,2.095) 71(14,-2.095) 72(14,2.095) 73(14.8,-2.095) 74(14.8,2.095) 75(15.6,-2.095) 76(15.6,2.095) 77(16.4,-2.095) 78(16.4,2.095) 79(17.2,-2.095) 80(17.2,2.095)
  round 2.54 hole 0.84: Un1(-21.05,0) Un4(21.05,0)
  round 1.27 hole 1.27: Un2(-18.7,-1.5) Un3(18.7,0)
F.SilkS:
  circle w0.254: c-17.2,-3.795 r0.25
  lines w0.254: -22.31,-0.868 -22.31,-2.641 -20.946,-4.005 -17.79,-4.005 -17.79,-3.305 17.79,-3.305 17.79,-4.005 22.31,-4.005 22.31,-0.868 ; -22.31,0.868 -22.31,4.005 -17.79,4.005 -17.79,3.305 17.79,3.305 17.79,4.005 22.31,4.005 22.31,0.868
Top Assembly:
  lines w0.254: -22.2,-2.595 -20.9,-3.895 -17.9,-3.895 -17.9,-3.195 17.9,-3.195 17.9,-3.895 22.2,-3.895 22.2,3.895 17.9,3.895 17.9,3.195 -17.9,3.195 -17.9,3.895 -22.2,3.895 -22.2,-2.595 ; -17.6,-3.895 -16.8,-3.895 -17.2,-3.255 -17.6,-3.895
  text "'.Designator'" at -4.047,-0.84 h1
Top Courtyard:
  lines w0.254: -22.82,-4.4 22.82,-4.4 22.82,4.4 -22.82,4.4 -22.82,-4.4
Top Designator:
  text ".Designator" at -7.618,-0.508 h1.52

## Samtec_HSEC8-140-03-X-DV-A_2x40_P0.8mm_Pol22_Socket_AlignmentPins [mm]
pads (82):
  rrect25% 0.5x1.2 smd: 1(-17.2,-2.095) 2(-17.2,2.095) 3(-16.4,-2.095) 4(-16.4,2.095) 5(-15.6,-2.095) 6(-15.6,2.095) 7(-14.8,-2.095) 8(-14.8,2.095) 9(-14,-2.095) 10(-14,2.095) 11(-13.2,-2.095) 12(-13.2,2.095) 13(-12.4,-2.095) 14(-12.4,2.095) 15(-11.6,-2.095) 16(-11.6,2.095) 17(-10.8,-2.095) 18(-10.8,2.095) 19(-10,-2.095) 20(-10,2.095) 21(-9.2,-2.095) 22(-9.2,2.095) 23(-8.4,-2.095) 24(-8.4,2.095) 25(-7.6,-2.095) 26(-7.6,2.095) 27(-6.8,-2.095) 28(-6.8,2.095) 29(-6,-2.095) 30(-6,2.095) 31(-5.2,-2.095) 32(-5.2,2.095) 33(-4.4,-2.095) 34(-4.4,2.095) 35(-3.6,-2.095) 36(-3.6,2.095) 37(-2.8,-2.095) 38(-2.8,2.095) 39(-2,-2.095) 40(-2,2.095) 41(-1.2,-2.095) 42(-1.2,2.095) 43(-0.4,-2.095) 44(-0.4,2.095) 45(3.6,-2.095) 46(3.6,2.095) 47(4.4,-2.095) 48(4.4,2.095) 49(5.2,-2.095) 50(5.2,2.095) 51(6,-2.095) 52(6,2.095) 53(6.8,-2.095) 54(6.8,2.095) 55(7.6,-2.095) 56(7.6,2.095) 57(8.4,-2.095) 58(8.4,2.095) 59(9.2,-2.095) 60(9.2,2.095) 61(10,-2.095) 62(10,2.095) 63(10.8,-2.095) 64(10.8,2.095) 65(11.6,-2.095) 66(11.6,2.095) 67(12.4,-2.095) 68(12.4,2.095) 69(13.2,-2.095) 70(13.2,2.095) 71(14,-2.095) 72(14,2.095) 73(14.8,-2.095) 74(14.8,2.095) 75(15.6,-2.095) 76(15.6,2.095) 77(16.4,-2.095) 78(16.4,2.095) 79(17.2,-2.095) 80(17.2,2.095)
  round 1.27 hole 1.27: Un1(-18.7,-1.5) Un2(18.7,0)
F.SilkS:
  circle w0.254: c-17.2,-3.795 r0.25
  lines w0.254: -20.01,-2.641 -18.646,-4.005 -17.79,-4.005 -17.79,-3.305 17.79,-3.305 17.79,-4.005 20.01,-4.005 20.01,4.005 17.79,4.005 17.79,3.305 -17.79,3.305 -17.79,4.005 -20.01,4.005 -20.01,-2.641
Top Assembly:
  lines w0.254: -19.9,-2.595 -18.6,-3.895 -17.9,-3.895 -17.9,-3.195 17.9,-3.195 17.9,-3.895 19.9,-3.895 19.9,3.895 17.9,3.895 17.9,3.195 -17.9,3.195 -17.9,3.895 -19.9,3.895 -19.9,-2.595 ; -17.6,-3.895 -16.8,-3.895 -17.2,-3.255 -17.6,-3.895
  text "'.Designator'" at -4.047,-0.84 h1
Top Courtyard:
  lines w0.254: -20.4,-4.4 20.4,-4.4 20.4,4.4 -20.4,4.4 -20.4,-4.4
Top Designator:
  text ".Designator" at -7.618,-0.508 h1.52

## Samtec_HSEC8-140-03-X-DV_2x40_P0.8mm_Pol22_Socket [mm]
pads (80):
  rrect25% 0.5x1.2 smd: 1(-17.2,-2.095) 2(-17.2,2.095) 3(-16.4,-2.095) 4(-16.4,2.095) 5(-15.6,-2.095) 6(-15.6,2.095) 7(-14.8,-2.095) 8(-14.8,2.095) 9(-14,-2.095) 10(-14,2.095) 11(-13.2,-2.095) 12(-13.2,2.095) 13(-12.4,-2.095) 14(-12.4,2.095) 15(-11.6,-2.095) 16(-11.6,2.095) 17(-10.8,-2.095) 18(-10.8,2.095) 19(-10,-2.095) 20(-10,2.095) 21(-9.2,-2.095) 22(-9.2,2.095) 23(-8.4,-2.095) 24(-8.4,2.095) 25(-7.6,-2.095) 26(-7.6,2.095) 27(-6.8,-2.095) 28(-6.8,2.095) 29(-6,-2.095) 30(-6,2.095) 31(-5.2,-2.095) 32(-5.2,2.095) 33(-4.4,-2.095) 34(-4.4,2.095) 35(-3.6,-2.095) 36(-3.6,2.095) 37(-2.8,-2.095) 38(-2.8,2.095) 39(-2,-2.095) 40(-2,2.095) 41(-1.2,-2.095) 42(-1.2,2.095) 43(-0.4,-2.095) 44(-0.4,2.095) 45(3.6,-2.095) 46(3.6,2.095) 47(4.4,-2.095) 48(4.4,2.095) 49(5.2,-2.095) 50(5.2,2.095) 51(6,-2.095) 52(6,2.095) 53(6.8,-2.095) 54(6.8,2.095) 55(7.6,-2.095) 56(7.6,2.095) 57(8.4,-2.095) 58(8.4,2.095) 59(9.2,-2.095) 60(9.2,2.095) 61(10,-2.095) 62(10,2.095) 63(10.8,-2.095) 64(10.8,2.095) 65(11.6,-2.095) 66(11.6,2.095) 67(12.4,-2.095) 68(12.4,2.095) 69(13.2,-2.095) 70(13.2,2.095) 71(14,-2.095) 72(14,2.095) 73(14.8,-2.095) 74(14.8,2.095) 75(15.6,-2.095) 76(15.6,2.095) 77(16.4,-2.095) 78(16.4,2.095) 79(17.2,-2.095) 80(17.2,2.095)
F.SilkS:
  circle w0.254: c-17.2,-3.795 r0.25
  lines w0.254: -20.01,-2.641 -18.646,-4.005 -17.79,-4.005 -17.79,-3.305 17.79,-3.305 17.79,-4.005 20.01,-4.005 20.01,4.005 17.79,4.005 17.79,3.305 -17.79,3.305 -17.79,4.005 -20.01,4.005 -20.01,-2.641
Top Assembly:
  lines w0.254: -19.9,-2.595 -18.6,-3.895 -17.9,-3.895 -17.9,-3.195 17.9,-3.195 17.9,-3.895 19.9,-3.895 19.9,3.895 17.9,3.895 17.9,3.195 -17.9,3.195 -17.9,3.895 -19.9,3.895 -19.9,-2.595 ; -17.6,-3.895 -16.8,-3.895 -17.2,-3.255 -17.6,-3.895
  text "'.Designator'" at -4.047,-0.84 h1
Top Courtyard:
  lines w0.254: -20.4,-4.4 20.4,-4.4 20.4,4.4 -20.4,4.4 -20.4,-4.4
Top Designator:
  text ".Designator" at -7.618,-0.508 h1.52

## Samtec_HSEC8-140-X-X-DV-BL_2x40_P0.8mm_Edge [mm]
pads (80):
  rect 0.55x2.8 smd: 1(-17.2,2.4) 3(-16.4,2.4) 5(-15.6,2.4) 7(-14.8,2.4) 9(-14,2.4) 11(-13.2,2.4) 13(-12.4,2.4) 15(-11.6,2.4) 17(-10.8,2.4) 19(-10,2.4) 21(-9.2,2.4) 23(-8.4,2.4) 25(-7.6,2.4) 27(-6.8,2.4) 29(-6,2.4) 31(-5.2,2.4) 33(-4.4,2.4) 35(-3.6,2.4) 37(-2.8,2.4) 39(-2,2.4) 41(-1.2,2.4) 43(-0.4,2.4) 45(3.6,2.4) 47(4.4,2.4) 49(5.2,2.4) 51(6,2.4) 53(6.8,2.4) 55(7.6,2.4) 57(8.4,2.4) 59(9.2,2.4) 61(10,2.4) 63(10.8,2.4) 65(11.6,2.4) 67(12.4,2.4) 69(13.2,2.4) 71(14,2.4) 73(14.8,2.4) 75(15.6,2.4) 77(16.4,2.4) 79(17.2,2.4)
  rect 0.55x2.8 smd far side: 2(-17.2,2.4) 4(-16.4,2.4) 6(-15.6,2.4) 8(-14.8,2.4) 10(-14,2.4) 12(-13.2,2.4) 14(-12.4,2.4) 16(-11.6,2.4) 18(-10.8,2.4) 20(-10,2.4) 22(-9.2,2.4) 24(-8.4,2.4) 26(-7.6,2.4) 28(-6.8,2.4) 30(-6,2.4) 32(-5.2,2.4) 34(-4.4,2.4) 36(-3.6,2.4) 38(-2.8,2.4) 40(-2,2.4) 42(-1.2,2.4) 44(-0.4,2.4) 46(3.6,2.4) 48(4.4,2.4) 50(5.2,2.4) 52(6,2.4) 54(6.8,2.4) 56(7.6,2.4) 58(8.4,2.4) 60(9.2,2.4) 62(10,2.4) 64(10.8,2.4) 66(11.6,2.4) 68(12.4,2.4) 70(13.2,2.4) 72(14,2.4) 74(14.8,2.4) 76(15.6,2.4) 78(16.4,2.4) 80(17.2,2.4)
F.SilkS:
  lines w0.254: -18.225,5.13 -16.955,6.4 18.225,6.4
  text "79" at 16.109,4.025 h0.75
  text "45" at 3.241,4.025 h0.75
  text "43" at -1.509,4.025 h0.75
  text "1" at -17.439,4.025 h0.75
B.SilkS:
  lines w0.254: -18.225,6.4 18.225,6.4
  text "80" at 17.559,4.025 h0.75
  text "46" at 4.691,4.025 h0.75
  text "44" at -0.023,4.025 h0.75
  text "2" at -16.8,4.025 h0.75
Top Assembly:
  lines w0.254: -18.225,0.88 18.225,0.88 ; -18.225,0 18.225,0 18.225,6.4 -16.955,6.4 -18.225,5.13 -18.225,0
  text "'.Designator'" at -4.047,1.7 h1
Bottom Assembly:
  lines w0.254: -18.225,0.88 18.225,0.88 ; -18.225,0 18.225,0 18.225,6.4 -18.225,6.4 -18.225,0
Top Courtyard:
  lines w0.254: -18.48,-0.25 18.48,-0.25 18.48,6.65 -18.48,6.65 -18.48,-0.25
Bottom Courtyard:
  lines w0.254: -18.48,-0.25 18.48,-0.25 18.48,6.65 -18.48,6.65 -18.48,-0.25
Top Designator:
  text ".Designator" at -7.618,2.485 h1.52
Board Shape:
  lines w0.254: -18.725,8.78 cw(c-19.725,8.78) -19.725,7.78 -22.325,7.78 ccw(c-22.325,7.38) -22.725,7.38 -22.725,6 -19.225,6 cw(c-19.225,5) -18.225,5 -18.225,0 0.405,0 0.405,5.2 cw(c1.605,5.2) 2.805,5.2 2.805,0 18.225,0 18.225,5 cw(c19.225,5) 19.225,6 22.725,6 22.725,7.38 ccw(c22.325,7.38) 22.325,7.78 19.725,7.78 cw(c19.725,8.78) 18.725,8.78
Cmts.User:
  lines w0.254: -18.225,-1.8 -15.725,-1.8
  text "mated PCB distance: 1.80 mm (ref)" at -15.63,-2.521 h0.75
  text "Chamfer 30 degree 0.45 mm" at -7.868,-0.21 h0.75